# Altium footprint library 2002411114.PcbLib: 1 footprints
Each footprint in its own frame and in the unit in brackets; x right, y up, seen from the top. Pads: shape width x height; smd on the part's side, far side on the other; paste and mask are expansions set on the pad; w line width, h text height; cw(c..) or ccw(c..) is an arc to the next point about the centre after c.
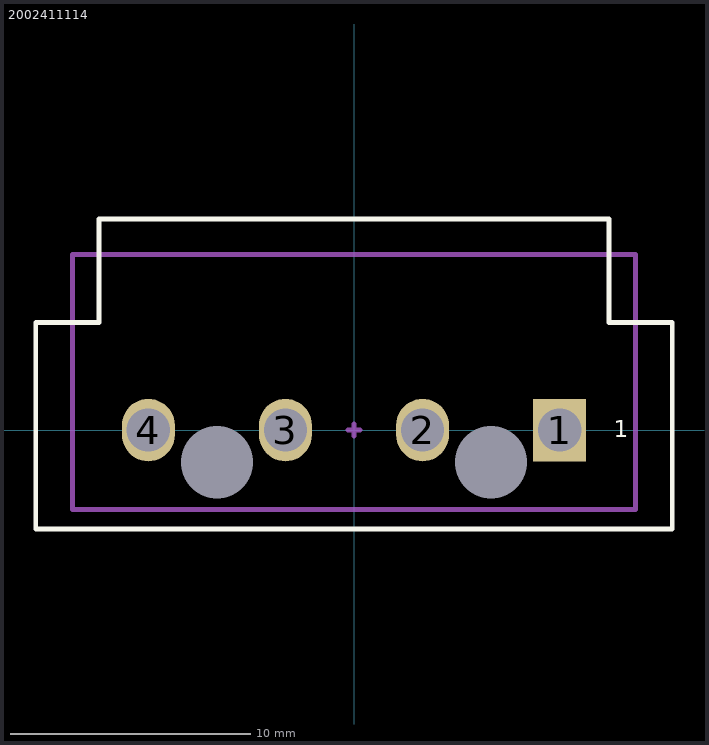
[diagram p0: the footprint, top view; thin cyan lines are the x and y axes]

## 2002411114 [mm]
pads (6):
  rect 2.2x2.6 hole 1.8: 1(8.55,0)
  oval 2.2x2.6 hole 1.8: 2(2.85,0) 3(-2.85,0) 4(-8.55,0)
  round 0 hole 3 unplated: 5(5.7,-1.34) 6(-5.7,-1.34)
Top Overlay:
  lines w0.2: -13.23,-4.12 -13.23,0 -13.23,4.47 -10.6,4.47 -10.6,8.78 10.6,8.78 10.6,4.47 13.23,4.47 13.23,0 13.23,-4.12 -13.23,-4.12
  text "1" at 10.8,-0.3 h0.7
Mechanical 13:
  lines w0.2: -11.7,-3.3 11.7,-3.3 11.7,7.3 -11.7,7.3 -11.7,-3.3
  text "'.Designator'" at -3.7,3.933 h0.7
Mechanical 15:
  lines w0.2: 0,-0.254 0,0.254 0,0 ; 0,0 0.254,0 -0.254,0 0,0
3D body "2002411114.stp": height 17.5, standoff -3.23, extent -11.725,-3.29 11.725,7.31